# EAGLE library part PCM1808 (library Rebel)
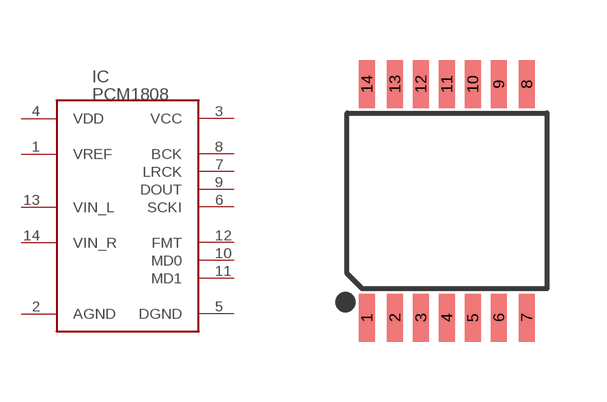
[diagram p41: symbol with the pads of TSSOP14-0.65-5X4.4MM; footprint TSSOP14-0.65-5X4.4MM]

Designator prefix IC

## PCM1808  [TSSOP14-0.65-5X4.4MM]
1  VREF
2  AGND
3  VCC
4  VDD
5  DGND
6  SCKI
7  LRCK
8  BCK
9  DOUT
10  MD0
11  MD1
12  FMT
13  VIN_L
14  VIN_R

## Footprint TSSOP14-0.65-5X4.4MM (pad centres in mm)
smd 0.4 x 1.2: 1 -2,-2.925; 2 -1.3,-2.925; 3 -0.65,-2.925; 4 0,-2.925; 5 0.65,-2.925; 6 1.3,-2.925; 7 2,-2.925; 8 2,2.925; 9 1.3,2.925; 10 0.65,2.925; 11 0,2.925; 12 -0.65,2.925; 13 -1.3,2.925; 14 -2,2.925